# EAGLE library part PGA280 (library satellite)
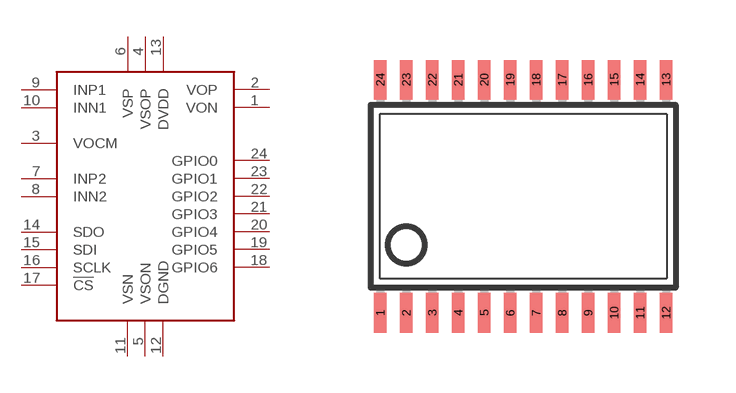
[diagram p7: symbol with the pads of TSSOP24; footprint TSSOP24]

Designator prefix -

## PGA280  [TSSOP24]
1  VON
2  VOP
3  VOCM
4  VSOP
5  VSON
6  VSP
7  INP2
8  INN2
9  INP1
10  INN1
11  VSN
12  DGND
13  DVDD
14  SDO
15  SDI
16  SCLK
17  !CS
18  GPIO6
19  GPIO5
20  GPIO4
21  GPIO3
22  GPIO2
23  GPIO1
24  GPIO0

## Footprint TSSOP24 (pad centres in mm)
Thin Shrink Small Outline Plastic 24 MAX3223-MAX3243.pdf
smd 0.305 x 0.991: 1 -3.575,-2.918; 2 -2.925,-2.918; 3 -2.275,-2.918; 4 -1.625,-2.918; 5 -0.975,-2.918; 6 -0.325,-2.918; 7 0.325,-2.918; 8 0.975,-2.918; 9 1.625,-2.918; 10 2.275,-2.918; 11 2.925,-2.918; 12 3.575,-2.918; 13 3.575,2.918; 14 2.925,2.918; 15 2.275,2.918; 16 1.625,2.918; 17 0.975,2.918; 18 0.325,2.918; 19 -0.325,2.918; 20 -0.975,2.918; 21 -1.625,2.918; 22 -2.275,2.918; 23 -2.925,2.918; 24 -3.575,2.918